# Altium schematic symbol library UBA2032TS.Schlib: 1 symbol
Pins are listed as number, name and electrical type; pins without a type are passive.

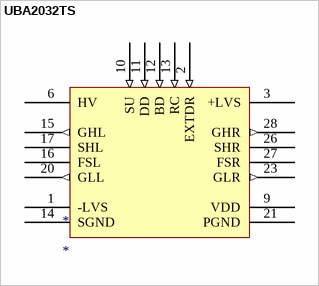
[diagram p0: symbol UBA2032TS]

## UBA2032TS
designator *
Full Bridge Driver
pins: 1 -LVS (power) "Negative logic supply", 2 EXTDR (in) "Bridge control input", 3 +LVS (power) "Positive logic supply", 6 HV (power) "High voltage supply input", 9 VDD (power) "Internal low voltage supply", 10 SU (in) "Startup delay input", 11 DD (in) "Divider disable input", 12 BD (in) "Bridge disable input", 13 RC (in) "RC input for internal oscillator", 14 SGND (power) "Signal ground", 15 GHL (out) "Higher left FET gate", 16 FSL "Left floating supply", 17 SHL "Higher left source", 20 GLL (out) "Lower left FET gate", 21 PGND (power) "Power ground", 23 GLR (out) "Lower right FET gate", 26 SHR "Higher right FET source", 27 FSR "Right floating supply", 28 GHR (out) "Higher right FET gate"